# Altium footprint library OLEDp96MOD_HOLE.PcbLib: 1 footprints
Each footprint in its own frame and in the unit in brackets; x right, y up, seen from the top. Pads: shape width x height; smd on the part's side, far side on the other; paste and mask are expansions set on the pad; w line width, h text height; cw(c..) or ccw(c..) is an arc to the next point about the centre after c.
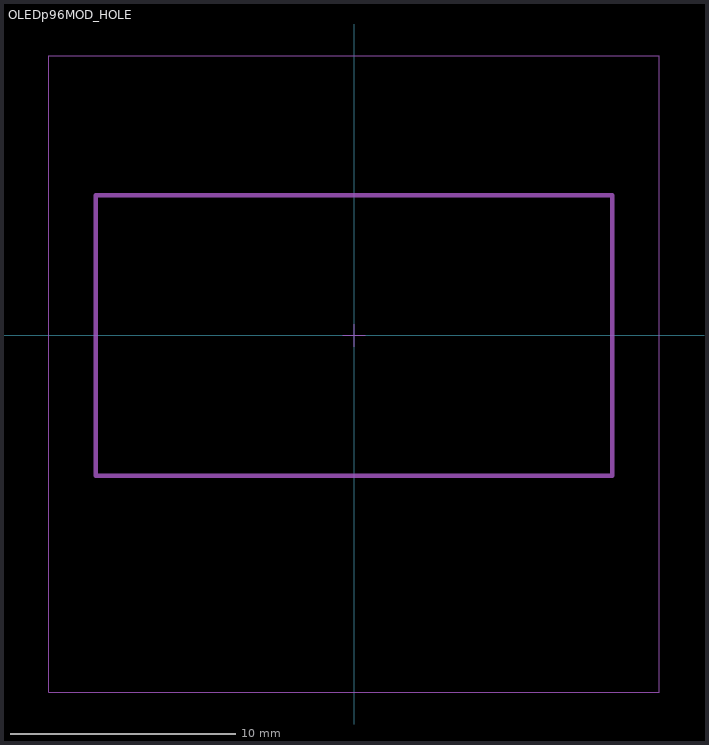
[diagram p0: the footprint, top view; thin cyan lines are the x and y axes]

## OLEDp96MOD_HOLE [mm]
Mechanical 1:
  lines w0.2: -11.5,-6.25 11.5,-6.25 11.5,6.25 -11.5,6.25 -11.5,-6.25
  text "CUTOUT" at -4.317,-0.635 h1.52
Mechanical 15:
  lines w0.05: -0.508,0 0.508,0 ; 0,-0.508 0,0.508 ; -13.589,-15.875 13.589,-15.875 13.589,12.446 -13.589,12.446 -13.589,-15.875